# Altium schematic symbol library Switch.SchLib: 6 symbols
Pins are listed as number, name and electrical type; pins without a type are passive.

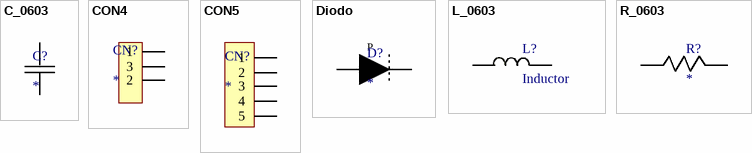
[diagram p0: symbols C_0603 to R_0603]

## C_0603
designator C?
Capacitor
pins: 1, 2

## CON4
designator CN?
Conector SMA
pins: 1, 2, 3

## CON5
designator CN?
Conector SMA
pins: 1, 2, 3, 4, 5

## Diodo
designator D?
Diodo Pin
pins: A, K
text: P

## L_0603
designator L?, comment Inductor
pins: 1, 2

## R_0603
designator R?
Resistor
pins: 1, 2